# Altium schematic symbol library BLDC_Motor_SchLib.SchLib: 12 symbols
Pins are listed as number, name and electrical type; pins without a type are passive.

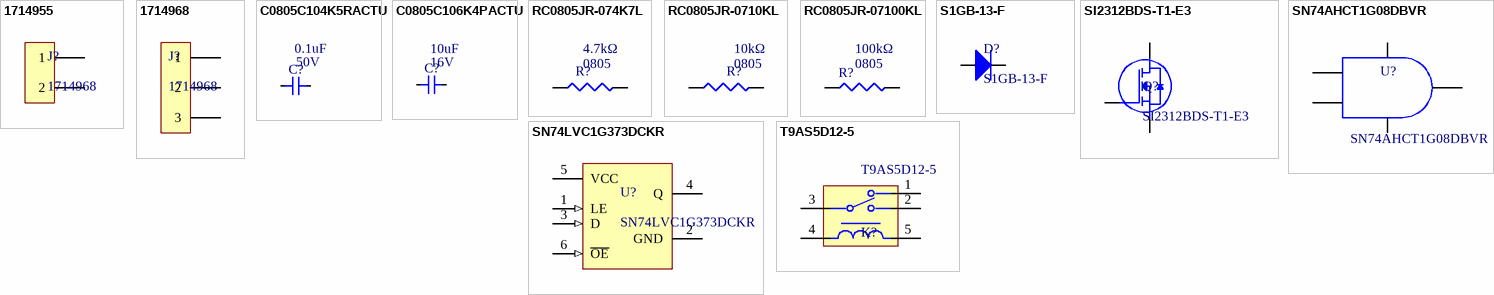
[diagram p0: symbols 1714955 to T9AS5D12-5]

## 1714955
designator J?, comment 1714968
TERM BLK 2P SIDE ENT 6.35MM PCB; Manufacturer: Phoenix Contact; Current Rating: 30A; Voltage Rating: 300V; Supplier 1: Digi-Key; Supplier Part Number 1: 277-1269-ND; Manufacturer Part Number: 1714968
footprint 1714955 (Footprint not found)
pins: 1, 2

## 1714968
designator J?
TERM BLK 3P SIDE ENT 6.35MM PCB; Manufacturer 1: Phoenix Contact; Supplier Part Number 1: 277-1270-ND; Manufacturer Part Number 1: 1714968; Supplier 1: Digi-Key
footprint 796740-3
pins: 1, 2, 3

## C0805C104K5RACTU
designator C?  Voltage Rating: 50V  Capacitance: 0.1uF  (hidden comment: C0805C104K5RACTU)
Cap Ceramic 0.1uF 50V X7R 10% SMD 2.0 x 1.2 mm 125 C Paper T/R; Manufacturer 1: KEMET; Manufacturer Part Number 1: C0805C104K5RACTU; Case/Package: 0805; Supplier 1: Digi-Key; Supplier Part Number 1: 399-1170-1-ND
footprint C0805C104K5RACTU
pins: 1, 2

## C0805C106K4PACTU
designator C?  Voltage Rating: 16V  Capacitance: 10uF  (hidden comment: C0805C106K4PACTU)
CERAMIC CAPACITOR, 10UF, 16V, X5R, 10%, 0805; Manufacturer 1: KEMET; Supplier 1: Digi-Key; Supplier Part Number 1: 399-8012-1-ND; Manufacturer Part Number 1: C0805C106K4PACTU; Case/Package: 0805
footprint C0805C106K4PACTU
pins: 1, 1, 2, 2

## RC0805JR-074K7L
designator R?, comment Package: 0805  Resistance: 4.7kΩ  (hidden comment: RC0805JR-0747KL)
4.7k ±5% 0.125W, 1/8W Chip Resistor 0805 (2012 Metric) Moisture Resistant Thick Film; Manufacturer 1: Yageo; Manufacturer Part Number 1: RC0805JR-074K7L; Supplier Part Number 1: 311-4.7KARTR-ND; Supplier 1: Digi-Key
footprint RC0805JR-0747KL
pins: 1, 2

## RC0805JR-0710KL
designator R?  Package: 0805  Resistance: 10kΩ  (hidden comment: RC0805JR-0710KL)
Res Thick Film 0805 10K Ohm 5% 1/8W ±100ppm/°C Molded SMD Paper T/R; Manufacturer 1: Yageo; Supplier 1: Digi-Key; Supplier Part Number 1: 311-10KARCT-ND; Manufacturer Part Number 1: RC0805JR-0710KL; Tolerance: 5%
footprint RC0805JR-0710KL
pins: 1, 2

## RC0805JR-07100KL
designator R?  Case/Package: 0805  Resistance: 100kΩ  (hidden comment: RC0805JR-07100KL)
Res Thick Film 0805 100K Ohm 5% 1/8W 100ppm/C Molded SMD SMD Paper T/R; Manufacturer: Yageo; Temperature Coefficient: 100ppm/°C; Power Rating: 125mW; Voltage Rating: 150V; Supplier 1: Digi-Key; Manufacturer Part Number: RC0805JR-07100KL; RoHS: Yes; Category: Chip SMD Resistors; Stock 1: 292552; Pricing 1: 1=0.10000, 10=0.03600, 100=0.01450, 1000=0.00652, 2500=0.00566 (USD); Contact Plating: Tin,Matte,Lead; Case Code (Imperial): 0805; Case Code (Metric): 2012; Size Code: 0805; Min Operating Temperature: -55°C; Max Operating Temperature: 155°C; Tolerance: 5%; Resistor Type: Thick Film; Packaging: Tape and Reel; Termination: SMD/SMT; Features: Moisture Resistant; Series: RC; Max Power Dissipation: 125mW; Number of Terminations: 2; Construction: Rectangular; Resistance Tolerance: 5%; Length: 2mm; Depth: 1.25mm; Radiation Hardening: No; REACH SVHC: Unknown; Lead Free: Lead Free; Military Standard: Not; RoHS Compliant: Yes; ComponentLink1URL: https://datasheet.ciiva.com/7941/442941-7941865.pdf?src-supplier=Element14; ComponentLink1Description: https://datasheet.ciiva.com/7941/442941-7941865.pdf?src-supplier=Element14; ComponentLink2URL: https://datasheet.ciiva.com/7941/442941-7941864.pdf?src-supplier=Element14; ComponentLink2Description: https://datasheet.ciiva.com/7941/442941-7941864.pdf?src-supplier=Element14; ComponentLink3URL: https://datasheet.ciiva.com/15190/getdatasheetpartid-479267-15190029.pdf?src-supplier=Verical; ComponentLink3Description: https://datasheet.ciiva.com/15190/getdatasheetpartid-479267-15190029.pdf?src-supplier=Verical; Supplier Part Number 1: 311-100KARCT-ND
footprint RC0805JR-07100KL
pins: 1, 2

## S1GB-13-F
designator D?
Flyback Diode for SPDT; Manufacturer 1: Diodes Incorporated; VRRM: 325V; IFSM: 8.0A; Manufacturer Part Number 1: S1GB-13-F; Supplier 1: Digi-Key; Supplier Part Number 1: S1GB-FDICT-ND
footprint S1GB-13-F
pins: 1 - "Cathode", 2 + "Anode"

## SI2312BDS-T1-E3
designator Q?
MOSFET; Manufacturer 1: Vishay Siliconix; Manufacturer Part Number 1: SI2312BDS-T1-E3; Supplier 1: Digi-Key; Supplier Part Number 1: SI2312BDS-T1-E3CT-ND
footprint SI2312BDS-T1-E3
pins: 1 Gate, 2 Source, 3 Drain

## SN74AHCT1G08DBVR
designator U?, comment Manufacturer Part Number 1: SN74AHCT1G08DBVR  (hidden comment: AND Gate)
AND Gate IC 1 Channel - SOT-23-5; Manufacturer 1: Texas Instruments; Supplier Part Number 1: 296-1113-1-ND; Supplier 1: Digi-Key
footprint SN74AHCT1G08DBVR
pins: 1 A, 2 B, 3 GND, 4 Y, 5 VCC

## SN74LVC1G373DCKR
designator U?
IC LTCH D-TYP SGL 3-OUT SC70-6; Manufacturer: Texas Instruments; Max Supply Voltage: 5.5V; Min Supply Voltage: 1.65V; Polarity: Non-Inverting; Number of Bits: 1; Propagation Delay: 4ns; Quiescent Current: 10uA; Low Level Output Current: 32mA; Turn-On Delay Time: 1ns; High Level Output Current: -32mA; Logic Function: D-Type,Latch; Output Type: 3-STATE; Operating Supply Voltage: 3.3V; Supplier 1: Digi-Key; Manufacturer Part Number: SN74LVC1G373DCKR; RoHS: Yes; Category: Logic Gates; Stock 1: 1019; Pricing 1: 1=0.40000, 10=0.32400, 25=0.29640, 100=0.22050, 250=0.19980, 500=0.16536, 1000=0.12402 (USD); Mount: Surface Mount; Case/Package: SC; Number of Pins: 6; Weight: 8.8E-05oz; Contact Plating: Gold; Min Operating Temperature: -40°C; Max Operating Temperature: 125°C; Package Quantity: 3000; Packaging: Tape and Reel; Number of Elements: 1; Number of Circuits: 1; Number of Output Lines: 1; Number of Input Lines: 1; Number of Gates: 1; Independent Circuits: 1; Series: 74LVC; Technology: CMOS; Output Current: 32mA; Number of Channels: 1; Termination: SMD/SMT; Length: 2.15mm; Width: 1.4mm; Height: 1mm; Radiation Hardening: No; Lead Free: Lead Free; REACH SVHC: No SVHC; ComponentLink1URL: https://datasheet.ciiva.com/14288/sn74lvc1g373-14288210.pdf?src-supplier=Avnet; ComponentLink1Description: https://datasheet.ciiva.com/14288/sn74lvc1g373-14288210.pdf?src-supplier=Avnet; ComponentLink2URL: https://datasheet.ciiva.com/15088/getdatasheetpartid-416701-15088509.pdf?src-supplier=Verical; ComponentLink2Description: https://datasheet.ciiva.com/15088/getdatasheetpartid-416701-15088509.pdf?src-supplier=Verical; ComponentLink3URL: https://datasheet.ciiva.com/23782/1634225-23782997.pdf?src-supplier=Newark; ComponentLink3Description: https://datasheet.ciiva.com/23782/1634225-23782997.pdf?src-supplier=Newark; ComponentLink4URL: https://datasheet.ciiva.com/1881/sn74lvc1g373-1881421.pdf?src-supplier=Digi-Key; ComponentLink4Description: https://datasheet.ciiva.com/1881/sn74lvc1g373-1881421.pdf?src-supplier=Digi-Key; ComponentLink5URL: https://datasheet.ciiva.com/1881/sn74lvc1g373-1881422.pdf?src-supplier=Digi-Key; ComponentLink5Description: https://datasheet.ciiva.com/1881/sn74lvc1g373-1881422.pdf?src-supplier=Digi-Key; ComponentLink6URL: https://datasheet.ciiva.com/1881/sn74lvc1g373-1881423.pdf?src-supplier=Digi-Key; ComponentLink6Description: https://datasheet.ciiva.com/1881/sn74lvc1g373-1881423.pdf?src-supplier=Digi-Key; ComponentLink7URL: https://datasheet.ciiva.com/14288/sn74lvc1g373-14288214.pdf?src-supplier=Avnet; ComponentLink7Description: https://datasheet.ciiva.com/14288/sn74lvc1g373-14288214.pdf?src-supplier=Avnet; ComponentLink8URL: https://datasheet.ciiva.com/1508/1836498-1508503.pdf?src-supplier=Element14; ComponentLink8Description: https://datasheet.ciiva.com/1508/1836498-1508503.pdf?src-supplier=Element14; ComponentLink9URL: https://datasheet.ciiva.com/1508/1836498-1508504.pdf?src-supplier=Element14; ComponentLink9Description: https://datasheet.ciiva.com/1508/1836498-1508504.pdf?src-supplier=Element14; Supplier Part Number 1: 296-18775-1-ND
footprint DCK0006A_N (SOT23, 6-Leads, Body 2.15x1.4mm, Pitch 0.65mm, IPC Medium Density)
pins: 1 LE (in), 2 GND (power), 3 D (in), 4 Q (hiz), 5 VCC (power), 6 ~{OE} (in)

## T9AS5D12-5
designator K?
RELAY GEN PURPOSE SPDT 20A 5V; Manufacturer 1: TE Connectivity Potter & Brumfield Relays; Contact Voltage Rating (AC): 277V; Current Rating: 30A; Coil Current: 200mA; Voltage Rating (DC): 5V; Coil Voltage (DC): 5V; Contact Current Rating: 20A; Manufacturer Part Number 1: T9AS5D12-5; Supplier 1: Digi-Key; Supplier Part Number 1: T9AS5D12-5-ND
footprint T9AS5D12-5
pins: 1 NC, 2 NO, 3 COM, 4, 5